# EAGLE library part LAN8720 (library serial_interfaces)
LAN8720A/LAN8720Ai Small Footprint RMII 10/100 Ethernet PHY Transceiver with HP Auto-MDIX Support from SMSC / Microchip <http://www.microchip.com>.
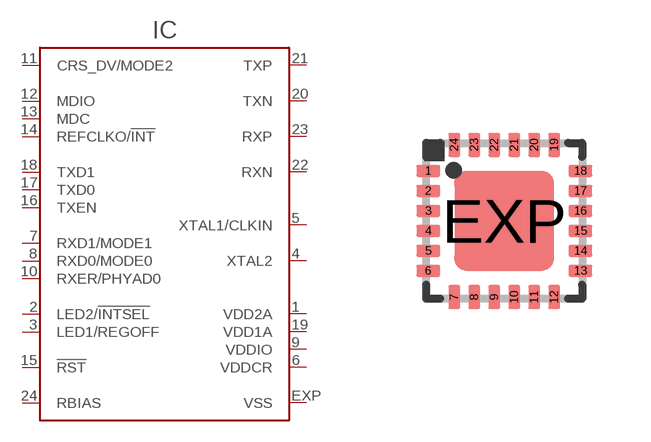
[diagram p34: symbol with the pads of QFN24; footprint QFN24]

Designator prefix IC

## LAN8720 (MANF: Microchip; MANF#: LAN8720AI-CP)  [QFN24]
1  VDD2A  pwr
2  LED2/!INTSEL
3  LED1/REGOFF
4  XTAL2
5  XTAL1/CLKIN
6  VDDCR  pwr
7  RXD1/MODE1
8  RXD0/MODE0
9  VDDIO  pwr
10  RXER/PHYAD0
11  CRS_DV/MODE2
12  MDIO
13  MDC
14  REFCLKO/!INT
15  !RST
16  TXEN
17  TXD0
18  TXD1
19  VDD1A  pwr
20  TXN
21  TXP
22  RXN
23  RXP
24  RBIAS
EXP  VSS  pwr

## Footprint QFN24 (pad centres in mm)
QFN 4x4 mm Source: http://www.hittite.com/product_info/product_specs/dividersdetectors/hmc394lp4.pdf
smd 0.6 x 0.3: 1 -1.905,1.25; 2 -1.905,0.75; 3 -1.905,0.25; 4 -1.905,-0.25; 5 -1.905,-0.75; 6 -1.905,-1.25; 13 1.905,-1.25; 14 1.905,-0.75; 15 1.905,-0.25; 16 1.905,0.25; 17 1.905,0.75; 18 1.905,1.25
smd 0.3 x 0.6: 7 -1.25,-1.905; 8 -0.75,-1.905; 9 -0.25,-1.905; 10 0.25,-1.905; 11 0.75,-1.905; 12 1.25,-1.905; 19 1.25,1.905; 20 0.75,1.905; 21 0.25,1.905; 22 -0.25,1.905; 23 -0.75,1.905; 24 -1.25,1.905
smd 2.5 x 2.5: EXP 0,0